# Altium schematic symbol library Digital.SchLib: 1 symbol
Pins are listed as number, name and electrical type; pins without a type are passive.

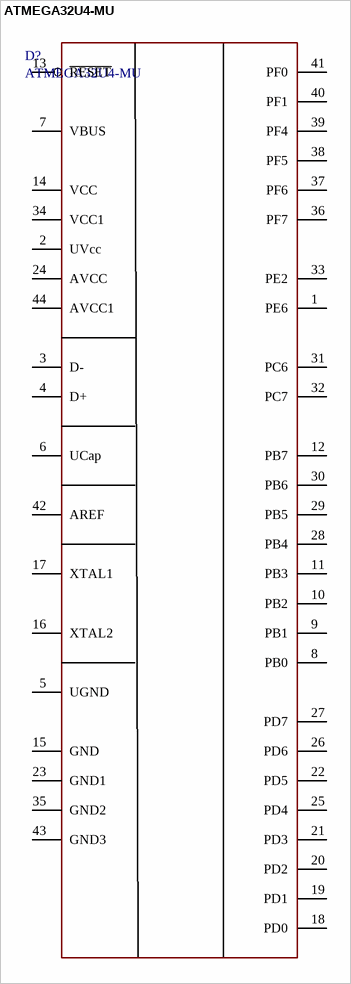
[diagram p0: symbol ATMEGA32U4-MU]

## ATMEGA32U4-MU
designator D?
AVR AVR® ATmega Microcontroller IC 8-Bit 16MHz 32KB (16K x 16) FLASH 44-VQFN (7x7); Manufacturer: Microchip Technology; Model: ATMEGA32U4-MU; ComponentKind: 44-VQFN (7x7); HelpURL: https://www.digikey.com/product-detail/en/microchip-technology/ATMEGA32U4-MU/ATMEGA32U4-MU-ND/1914603; ComponentLink1Description: HelpURL; ComponentLink1URL: https://www.digikey.com/product-detail/en/microchip-technology/ATMEGA32U4-MU/ATMEGA32U4-MU-ND/1914603
footprint ATMEGA32U4-MU (44-VQFN (7x7))
pins: 1 PE6, 2 UVcc, 3 D-, 4 D+, 5 UGND, 6 UCap, 7 VBUS, 8 PB0, 9 PB1, 10 PB2, 11 PB3, 12 PB7, 13 ~{RESET}, 14 VCC, 15 GND, 16 XTAL2, 17 XTAL1, 18 PD0, 19 PD1, 20 PD2, 21 PD3, 22 PD5, 23 GND1, 24 AVCC, 25 PD4, 26 PD6, 27 PD7, 28 PB4, 29 PB5, 30 PB6, 31 PC6, 32 PC7, 33 PE2, 34 VCC1, 35 GND2, 36 PF7, 37 PF6, 38 PF5, 39 PF4, 40 PF1, 41 PF0, 42 AREF, 43 GND3, 44 AVCC1